# EAGLE library part MURATA-TYPEZY (library FaBo-BT)
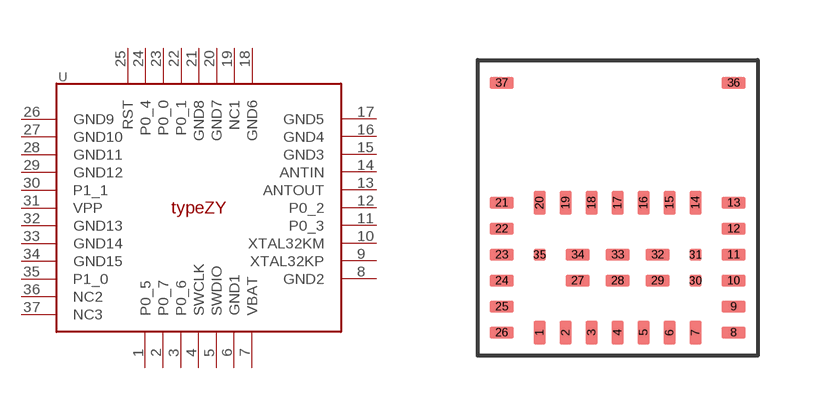
[diagram p7: symbol with the pads of MURATA_TYPEZY; footprint MURATA_TYPEZY]

Designator prefix -

## MURATA-TYPEZY  [MURATA_TYPEZY]
1  P0_5
2  P0_7
3  P0_6
4  SWCLK
5  SWDIO
6  GND1
7  VBAT
8  GND2
9  XTAL32KP
10  XTAL32KM
11  P0_3
12  P0_2
13  ANTOUT
14  ANTIN
15  GND3
16  GND4
17  GND5
18  GND6
19  NC1
20  GND7
21  GND8
22  P0_1
23  P0_0
24  P0_4
25  RST
26  GND9
27  GND10
28  GND11
29  GND12
30  P1_1
31  VPP
32  GND13
33  GND14
34  GND15
35  P1_0
36  NC2
37  NC3

## Footprint MURATA_TYPEZY (pad centres in mm)
smd 0.3 x 0.6: 1 -1.95,-1.625; 2 -1.3,-1.625; 3 -0.65,-1.625; 4 0,-1.625; 5 0.65,-1.625; 6 1.3,-1.625; 7 1.95,-1.625; 14 1.95,1.625; 15 1.3,1.625; 16 0.65,1.625; 17 0,1.625; 18 -0.65,1.625; 19 -1.3,1.625; 20 -1.95,1.625
smd 0.6 x 0.3: 8 2.9,-1.625; 9 2.9,-0.975; 10 2.9,-0.325; 11 2.9,0.325; 12 2.9,0.975; 13 2.9,1.625; 21 -2.9,1.625; 22 -2.9,0.975; 23 -2.9,0.325; 24 -2.9,-0.325; 25 -2.9,-0.975; 26 -2.9,-1.625; 27 -1,-0.325; 28 0,-0.325; 29 1,-0.325; 32 1,0.325; 33 0,0.325; 34 -1,0.325; 36 2.9,4.625; 37 -2.9,4.625
smd 0.3 x 0.3: 30 1.95,-0.325; 31 1.95,0.325; 35 -1.95,0.325